# Altium footprint library aPassive.PcbLib: 212 footprints (part 12 of 14)
Each footprint in its own frame and in the unit in brackets; x right, y up, seen from the top. Pads: shape width x height; smd on the part's side, far side on the other; paste and mask are expansions set on the pad; w line width, h text height; cw(c..) or ccw(c..) is an arc to the next point about the centre after c.
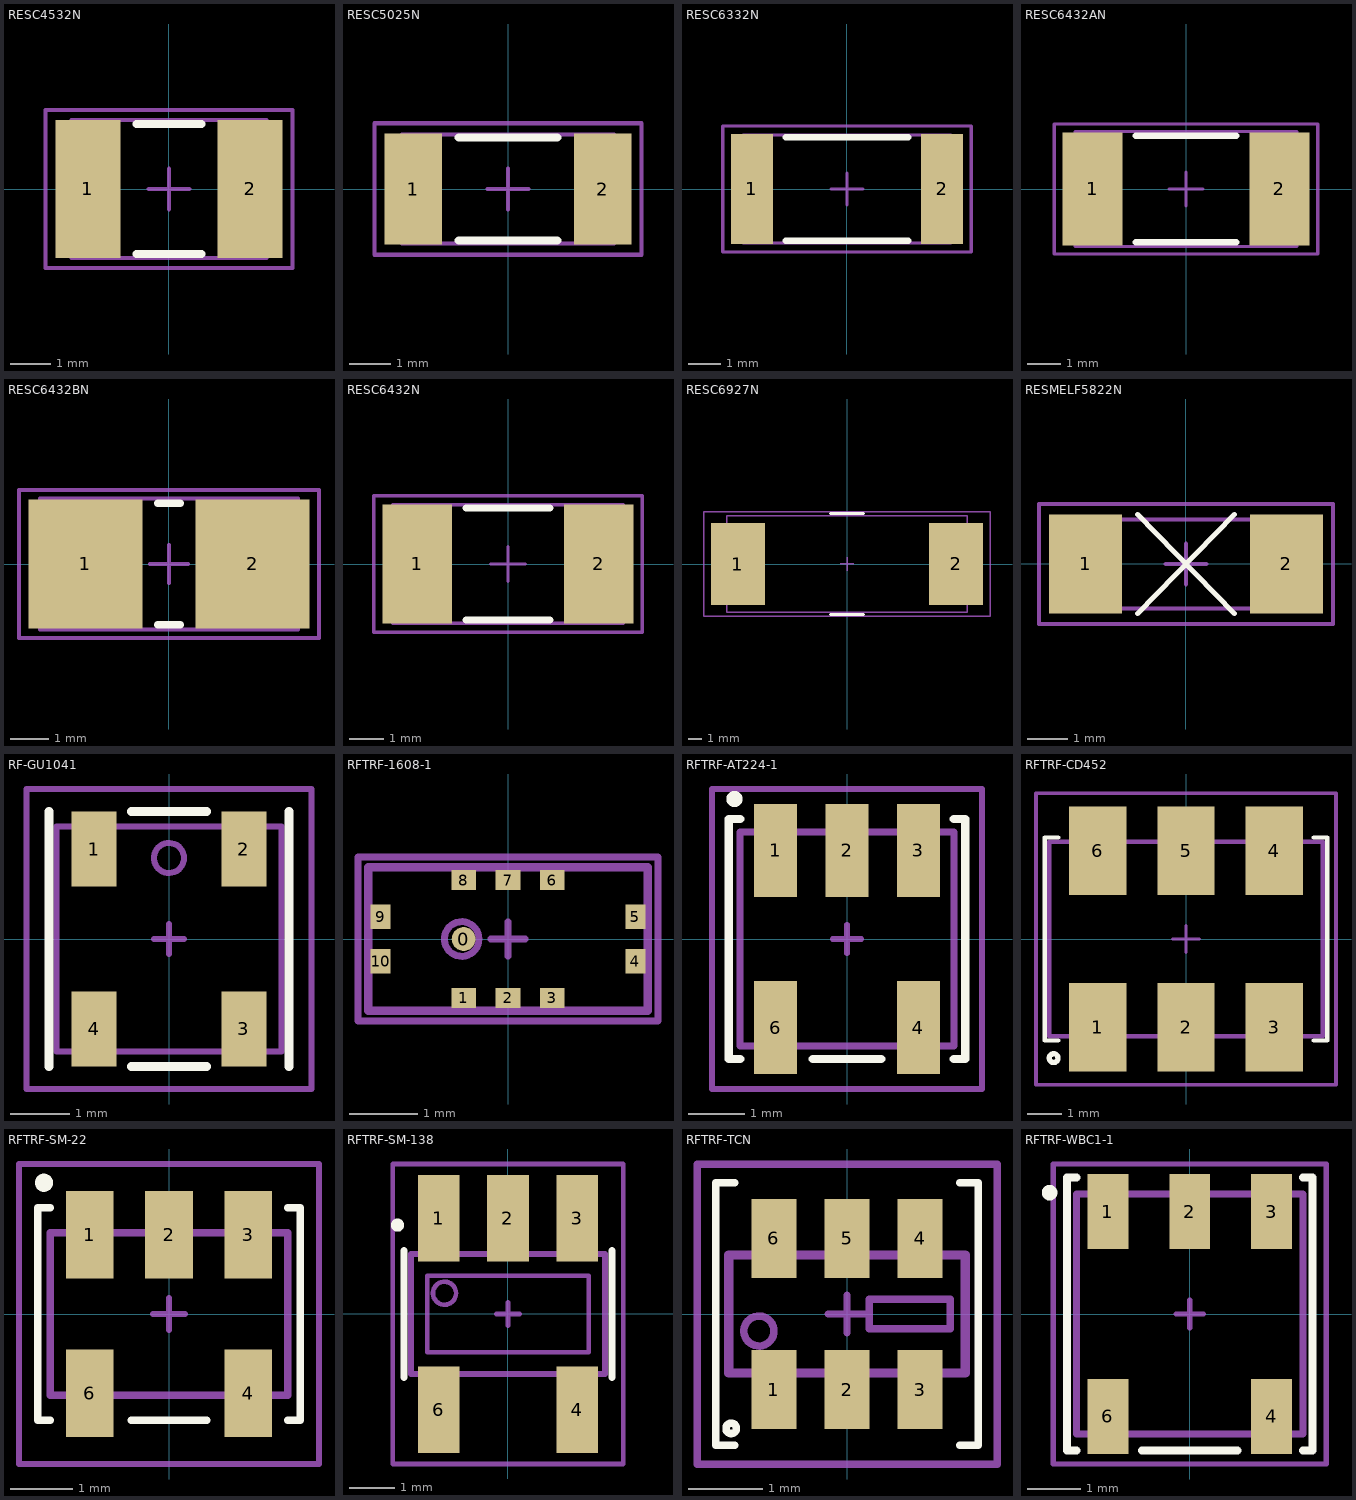
[diagram p11: the footprints below, top view; thin cyan lines are the x and y axes]

## RESC4532N [mm] "Chip Resistor, Body 4.5x3.2mm, IPC Medium Density"
height 0.71
pads (2):
  rect 1.6x3.4 smd: 1(-2,0) 2(2,0)
Top Overlay:
  lines w0.2: -0.8,-1.6 0.8,-1.6 ; -0.8,1.6 0.8,1.6
Mechanical 13:
  lines w0.1: -2.4,-1.7 2.4,-1.7 2.4,1.7 -2.4,1.7 -2.4,-1.7
Mechanical 15:
  lines w0.1: -0.5,0 0.5,0 ; 0,-0.5 0,0.5 ; -3.05,-1.95 3.05,-1.95 3.05,1.95 -3.05,1.95 -3.05,-1.95
3D body: height 0.71, standoff 0, extent -2.4,-1.7 2.4,1.7

## RESC5025N [mm] "Chip Resistor, Body 5.0x2.5mm, IPC Medium Density"
height 0.71
pads (2):
  rect 1.4x2.7 smd: 1(-2.3,0) 2(2.3,0)
Top Overlay:
  lines w0.2: -1.2,-1.25 1.2,-1.25 ; -1.2,1.25 1.2,1.25
Mechanical 13:
  lines w0.1: -2.575,-1.325 -2.575,1.325 2.575,1.325 2.575,-1.325 -2.575,-1.325
Mechanical 15:
  lines w0.1: -0.5,0 0.5,0 ; 0,-0.5 0,0.5 ; -3.25,-1.6 -3.25,1.6 3.25,1.6 3.25,-1.6 -3.25,-1.6
3D body: height 0.71, standoff 0, extent -2.575,-1.325 2.575,1.325

## RESC6332N [mm] "Chip Resistor, Body 6.3x3.2mm, IPC Medium Density"
height 0.71
pads (2):
  rect 1.3x3.4 smd: 1(-2.95,0) 2(2.95,0)
Top Overlay:
  lines w0.2: -1.9,-1.6 1.9,-1.6 ; -1.9,1.6 1.9,1.6
Mechanical 13:
  lines w0.1: -3.225,-1.675 -3.225,1.675 3.225,1.675 3.225,-1.675 -3.225,-1.675
Mechanical 15:
  lines w0.1: -0.5,0 0.5,0 ; 0,-0.5 0,0.5 ; -3.85,-1.95 -3.85,1.95 3.85,1.95 3.85,-1.95 -3.85,-1.95
3D body: height 0.71, standoff 0, extent -3.225,-1.675 3.225,1.675

## RESC6432AN [mm] "Chip Resistor, Body 6.4x3.2mm, IPC Medium Density"
height 1.1
pads (2):
  rect 1.8x3.4 smd: 1(-2.8,0) 2(2.8,0)
Top Overlay:
  lines w0.2: -1.5,-1.6 1.5,-1.6 ; -1.5,1.6 1.5,1.6
Mechanical 13:
  lines w0.1: -3.325,-1.725 3.325,-1.725 3.325,1.725 -3.325,1.725 -3.325,-1.725
Mechanical 15:
  lines w0.1: -0.5,0 0.5,0 ; 0,-0.5 0,0.5 ; -3.95,-1.95 3.95,-1.95 3.95,1.95 -3.95,1.95 -3.95,-1.95
3D body: height 1.1, standoff 0, extent -3.325,-1.725 3.325,1.725

## RESC6432BN [mm] "Chip Resistor, Body 6.4x3.2mm, IPC Medium Density"
height 1.1
pads (2):
  rect 3x3.4 smd: 1(-2.2,0) 2(2.2,0)
Top Overlay:
  lines w0.2: -0.3,-1.6 0.3,-1.6 ; -0.3,1.6 0.3,1.6
Mechanical 13:
  lines w0.1: -3.4,-1.725 -3.4,1.725 3.4,1.725 3.4,-1.725 -3.4,-1.725
Mechanical 15:
  lines w0.1: -0.5,0 0.5,0 ; 0,-0.5 0,0.5 ; -3.95,-1.95 -3.95,1.95 3.95,1.95 3.95,-1.95 -3.95,-1.95
3D body: height 1.1, standoff 0, extent -3.4,-1.725 3.4,1.725

## RESC6432N [mm] "Chip Resistor, Body 6.4x3.2mm, IPC Medium Density"
height 1.2
pads (2):
  rect 2x3.4 smd: 1(-2.6,0) 2(2.6,0)
Top Overlay:
  lines w0.2: -1.2,-1.6 1.2,-1.6 ; -1.2,1.6 1.2,1.6
Mechanical 13:
  lines w0.1: -3.3,-1.7 -3.3,1.7 3.3,1.7 3.3,-1.7 -3.3,-1.7
Mechanical 15:
  lines w0.1: -0.5,0 0.5,0 ; 0,-0.5 0,0.5 ; -3.85,-1.95 -3.85,1.95 3.85,1.95 3.85,-1.95 -3.85,-1.95
3D body: height 1.2, standoff 0, extent -3.3,-1.7 3.3,1.7

## RESC6927N [mil] "Chip Resistor, Body 17.5x7mm"
height 279.92
pads (2):
  rect 155x235 smd: 1(-312.5,0) 2(312.5,0)
Top Overlay:
  lines w7.87: -47.24,-145 47.24,-145 ; -47.24,145 47.24,145
Mechanical 13:
  lines w3.94: -345,-138 345,-138 345,138 -345,138 -345,-138
Mechanical 15:
  lines w3.94: -19.68,0 19.68,0 ; 0,-19.68 0,19.69 ; -410,-150 410,-150 410,150 -410,150 -410,-150
3D body: height 280, standoff 0, extent -345,-138 345,138

## RESMELF5822N [mm] "MELF Resistor, 2-Leads, Body 5,8x2,2mm, IPC Medium Density"
height 2.2
pads (2):
  rect 1.8x2.45 smd: 1(-2.475,0) 2(2.475,0)
Top Overlay:
  lines w0.127: -1.2,1.225 1.2,-1.225 ; -1.2,-1.225 1.2,1.225 -1.2,-1.225
Mechanical 13:
  lines w0.1: -2.9,-1.1 -2.9,1.1 2.9,1.1 2.9,-1.1 -2.9,-1.1
Mechanical 15:
  lines w0.1: -0.5,0 0.5,0 ; 0,-0.5 0,0.5 ; -3.625,-1.475 -3.625,1.475 3.625,1.475 3.625,-1.475 -3.625,-1.475
3D body: height 2.19, standoff 0, extent -2.9,-1.1 -1.8,1.096
3D body: height 2.19, standoff 0, extent 1.8,-1.096 2.9,1.1
3D body: height 2.19, standoff 0, extent -1.8,-1.098 1.8,1.098

## RF-GU1041 [mil] "RF Choke 3.81x3.81mm 4pin"
height 150
pads (4):
  rect 30x50 smd: 1(-50,60) 2(50,60) 3(50,-60) 4(-50,-60)
Top Overlay:
  lines w5.91: -80,-85 -80,85 ; -25,-85 25,-85 ; -25,85 25,85 ; 80,-85 80,85
Mechanical 13:
  circle w4: c0,54 r10
  lines w4: -75,-75 -75,75 75,75 75,-75 -75,-75
Mechanical 15:
  lines w4: -10,0 10,0 ; 0,-10 0,10 ; -95,-100 95,-100 95,100 -95,100 -95,-100
3D body: height 150, standoff 0, extent -75,-75 75,75

## RFTRF-1608-1 [mm] "RF balun 10pin"
height 0.9
pads (11):
  round 0.35 smd: 0(-0.65,0)
  rect 0.36x0.29 smd mask+0.051: 1(-0.65,-0.865) 2(0,-0.865) 3(0.65,-0.865) 6(0.65,0.865) 7(0,0.865) 8(-0.65,0.865)
  rect 0.29x0.36 smd mask+0.051: 4(1.87,-0.325) 5(1.87,0.325) 9(-1.87,0.325) 10(-1.87,-0.325)
Mechanical 13:
  circle w0.102: c-0.679,0 r0.254
  lines w0.127: -2.05,-1.05 -2.05,1.05 2.05,1.05 2.05,-1.05 -2.05,-1.05
Mechanical 15:
  lines w0.1: -0.254,0 0.254,0 ; 0,-0.254 0,0.254
  lines w0.102: -2.2,-1.2 -2.2,1.2 2.2,1.2 2.2,-1.2 -2.2,-1.2
3D body: height 0.88, standoff 0.05, extent -2.05,-1.05 2.05,1.05
3D body: height 0.89, standoff 0.88, extent -0.93,-0.255 -0.42,0.255

## RFTRF-AT224-1 [mil] "RF transformer 5pin"
height 160
pads (5):
  rect 30x65 smd: 1(-50,62) 2(0,62) 3(50,62) 4(50,-62) 6(-50,-62)
Top Overlay:
  circle w5.91: c-78.76,98 r2.76
  lines w5.91: -74.8,-84 -82.68,-84 -82.68,84 -74.8,84 ; -24,-84 24,-84 ; 74.8,-84 82.68,-84 82.68,84 74.8,84
Mechanical 13:
  circle w4: c-50,56 r10
  lines w5: -74.8,-75 -74.8,75 74.8,75 74.8,-75 -74.8,-75
Mechanical 15:
  lines w3.94: -10,0 10,0 ; 0,-10 0,10
  lines w4: -94.49,-105 -94.49,105 94.49,105 94.49,-105 -94.49,-105
3D body: height 31.89, standoff 31.5, extent -60.2,45.8 -39.8,66.2
3D body: height 141.73, standoff 47.24, extent -14.76,-42.32 14.76,42.32
3D body: height 141.73, standoff 47.24, extent 55.12,-42.32 70.87,42.32
3D body: height 141.73, standoff 47.24, extent -70.87,-42.32 -55.12,42.32
3D body: height 157.48, standoff 141.73, extent -70.87,-42.32 70.87,42.32
3D body: height 31.5, standoff 0, extent -75,-75 75,75
3D body: height 47.24, standoff 31.5, extent -70.87,-42.32 70.87,42.32
3D body: height 82.68, standoff 70.87, extent -51.18,-59.05 51.18,59.06
3D body: height 114.17, standoff 102.36, extent -51.18,-59.06 51.18,59.06
3D body: height 66.93, standoff 55.12, extent -51.18,-59.06 51.18,59.06
3D body: height 98.43, standoff 86.61, extent -51.18,-59.06 51.18,59.06
3D body: height 129.92, standoff 118.11, extent -51.18,-59.06 51.18,59.06

## RFTRF-CD452 [mm]
pads (6):
  rect 1.65x2.54 smd: 1(-2.54,-2.54) 2(0,-2.54) 3(2.54,-2.54) 4(2.54,2.54) 5(0,2.54) 6(-2.54,2.54)
Top Overlay:
  circle w0.15: c-3.81,-3.429 r0.127
  lines w0.127: -3.683,-2.921 -4.064,-2.921 -4.064,2.921 -3.683,2.921 ; 3.683,-2.921 4.064,-2.921 4.064,2.921 3.683,2.921
Mechanical 13:
  circle w0.1: c-2.667,-1.905 r0.508
  lines w0.127: -3.937,-2.794 -3.937,2.794 3.937,2.794 3.937,-2.794 -3.937,-2.794
Mechanical 15:
  lines w0.1: -0.381,0 0.381,0 ; 0,-0.381 0,0.381
  lines w0.102: -4.318,-4.191 4.318,-4.191 4.318,4.191 -4.318,4.191 -4.318,-4.191
3D body: height 2.84, standoff 2, extent -3.575,-2.425 -2.563,-1.411
3D body: height 2.84, standoff 0, extent -3.937,-2.794 3.937,2.794

## RFTRF-SM-22 [mil]
height 108.27
pads (5):
  rect 30x55 smd: 1(-50,50) 2(0,50) 3(50,50) 4(50,-50) 6(-50,-50)
Top Overlay:
  circle w5.91: c-78.74,82.68 r2.76
  lines w5: -74.8,-66.93 -82.68,-66.93 -82.68,66.93 -74.8,66.93 ; -23.62,-66.93 23.62,-66.93 ; 74.8,-66.93 82.68,-66.93 82.68,66.93 74.8,66.93
Mechanical 13:
  lines w5: -74.8,-51.18 -74.8,51.18 74.8,51.18 74.8,-51.18 -74.8,-51.18
Mechanical 15:
  lines w3.94: -10,0 10,0 ; 0,-10 0,10
  lines w4: -94.49,-94.49 94.49,-94.49 94.49,94.49 -94.49,94.49 -94.49,-94.49
3D body: height 108.27, standoff 0, extent -74.8,-51.18 74.8,51.18

## RFTRF-SM-138 [mil] "RF balun 5pin"
height 153.54
pads (5):
  rect 36x75 smd: 1(-60,83) 2(0,83) 3(60,83) 4(60,-83) 6(-60,-83)
Top Overlay:
  circle w5.91: c-95.76,77 r2.76
  lines w5.91: -90,-55 -90,55 ; 90,-55 90,55
Mechanical 13:
  circle w4: c-55,18 r10
  lines w4: -69,-52 -69,-105 -51,-105 -51,-52 ; -69,52 -69,105 -51,105 -51,52 ; -9,52 -9,105 9,105 9,52 ; 51,-52 51,-105 69,-105 69,-52 ; 51,52 51,105 69,105 69,52 ; -70,-33 -70,33 70,33 70,-33 -70,-33
  lines w5: -84,-52 84,-52 84,52 -84,52 -84,-52
Mechanical 15:
  lines w3.94: -10,0 10,0 ; 0,-10 0,10
  lines w4: -100,-130 100,-130 100,130 -100,130 -100,-130
3D body: height 141.73, standoff 47.24, extent 55,-33 70,33
3D body: height 67, standoff 20, extent -83,-52 83,52
3D body: height 153.1, standoff 153, extent -64,7.75 -43.61,28.15
3D body: height 141.73, standoff 47.24, extent -14,-33 14,33
3D body: height 141.73, standoff 47.24, extent -70,-33 -55,33
3D body: height 95, standoff 67, extent -70,-33 70,33
3D body: height 153, standoff 125, extent -70,-33 70,33
3D body: height 124, standoff 110, extent -40,-50 40,50
3D body: height 110, standoff 96, extent -40,-50 40,50

## RFTRF-TCN [mm] "RF transformer 6pin"
height 0.89
pads (6):
  rect 0.61x1.07 smd: 1(-0.99,-1.025) 2(0,-1.025) 3(0.99,-1.025) 4(0.99,1.025) 5(0,1.025) 6(-0.99,1.025)
Top Overlay:
  circle w0.102: c-1.569,-1.549 r0.07
  lines w0.102: -1.524,-1.778 -1.778,-1.778 -1.778,1.778 -1.524,1.778 ; 1.524,-1.778 1.778,-1.778 1.778,1.778 1.524,1.778
Mechanical 13:
  circle w0.102: c-1.193,-0.231 r0.203
  lines w0.102: 0.3,-0.2 0.3,0.2 1.4,0.2 1.4,-0.2 0.3,-0.2
  lines w0.127: -1.6,-0.8 1.6,-0.8 1.6,0.8 -1.6,0.8 -1.6,-0.8
Mechanical 15:
  lines w0.1: -0.254,0 0.254,0 ; 0,-0.254 0,0.254
  lines w0.102: -2.032,-2.032 2.032,-2.032 2.032,2.032 -2.032,2.032 -2.032,-2.032
3D body: height 0.9, standoff 0, extent -0.279,-0.813 0.279,-0.508
3D body: height 0.9, standoff 0, extent -0.279,0.508 0.279,0.813
3D body: height 0.9, standoff 0, extent 0.711,0.508 1.27,0.813
3D body: height 0.9, standoff 0, extent 0.711,-0.813 1.27,-0.508
3D body: height 0.9, standoff 0, extent -1.27,-0.813 -0.711,-0.508
3D body: height 0.9, standoff 0, extent -1.27,0.508 -0.711,0.813
3D body: height 0.89, standoff 0, extent -1.6,-0.8 1.6,0.8
3D body: height 0.9, standoff 0.89, extent -1.395,-0.44 -0.986,-0.025
3D body: height 0.9, standoff 0.89, extent 0.3,-0.2 1.4,0.2

## RFTRF-WBC1-1 [mil] "RF transformer 5pin"
height 120
pads (5):
  rect 30x55 smd: 1(-60,75) 2(0,75) 3(60,75) 4(60,-75) 6(-60,-75)
Top Overlay:
  circle w5.91: c-102.76,89 r2.76
  lines w5.91: -83,-100 -90,-100 -90,100 -83,100 ; -35,-100 35,-100 ; 83,-100 90,-100 90,100 83,100
Mechanical 13:
  circle w4: c-60,64 r10
  lines w5: -83,-88 83,-88 83,88 -83,88 -83,-88
Mechanical 15:
  lines w3.94: -10,0 10,0 ; 0,-10 0,10
  lines w4: -100,-110 100,-110 100,110 -100,110 -100,-110
3D body: height 31.89, standoff 31.5, extent -60.2,45.8 -39.8,66.2
3D body: height 141.73, standoff 47.24, extent -14.76,-42.32 14.76,42.32
3D body: height 141.73, standoff 47.24, extent 55.12,-42.32 70.87,42.32
3D body: height 141.73, standoff 47.24, extent -70.87,-42.32 -55.12,42.32
3D body: height 157.48, standoff 141.73, extent -70.87,-42.32 70.87,42.32
3D body: height 31.5, standoff 0, extent -83,-88 83,88
3D body: height 47.24, standoff 31.5, extent -70.87,-42.32 70.87,42.32
3D body: height 82.68, standoff 70.87, extent -51.18,-59.05 51.18,59.06
3D body: height 114.17, standoff 102.36, extent -51.18,-59.06 51.18,59.06
3D body: height 66.93, standoff 55.12, extent -51.18,-59.06 51.18,59.06
3D body: height 98.43, standoff 86.61, extent -51.18,-59.06 51.18,59.06
3D body: height 129.92, standoff 118.11, extent -51.18,-59.06 51.18,59.06